# Altium footprint library EIA.QFP.PcbLib: 10 footprints
Each footprint in its own frame and in the unit in brackets; x right, y up, seen from the top. Pads: shape width x height; smd on the part's side, far side on the other; paste and mask are expansions set on the pad; w line width, h text height; cw(c..) or ccw(c..) is an arc to the next point about the centre after c.
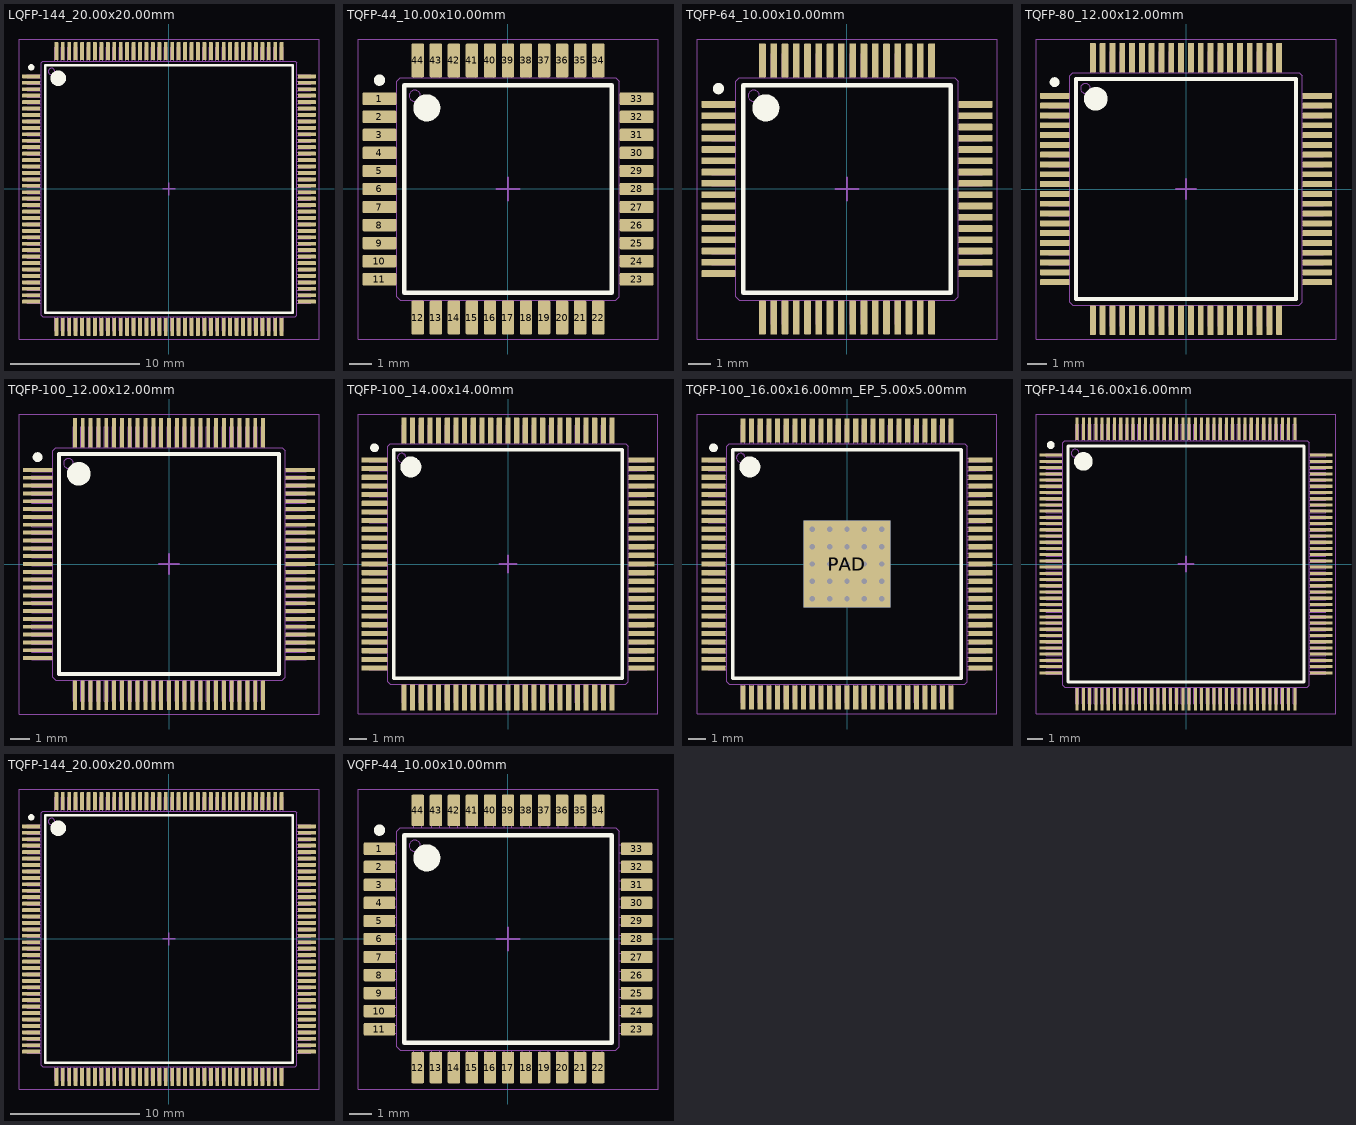
[diagram p0: the footprints below, top view; thin cyan lines are the x and y axes]

## LQFP-144_20.00x20.00mm [mm] "LQFP, 144-Leads, Body 20.00x20.00mm, Pitch 0.50mm, IPC Medium Density"
height 1.6
pads (144):
  rrect20% 1.4x0.3 smd: 1(-10.7,8.75) 2(-10.7,8.25) 3(-10.7,7.75) 4(-10.7,7.25) 5(-10.7,6.75) 6(-10.7,6.25) 7(-10.7,5.75) 8(-10.7,5.25) 9(-10.7,4.75) 10(-10.7,4.25) 11(-10.7,3.75) 12(-10.7,3.25) 13(-10.7,2.75) 14(-10.7,2.25) 15(-10.7,1.75) 16(-10.7,1.25) 17(-10.7,0.75) 18(-10.7,0.25) 19(-10.7,-0.25) 20(-10.7,-0.75) 21(-10.7,-1.25) 22(-10.7,-1.75) 23(-10.7,-2.25) 24(-10.7,-2.75) 25(-10.7,-3.25) 26(-10.7,-3.75) 27(-10.7,-4.25) 28(-10.7,-4.75) 29(-10.7,-5.25) 30(-10.7,-5.75) 31(-10.7,-6.25) 32(-10.7,-6.75) 33(-10.7,-7.25) 34(-10.7,-7.75) 35(-10.7,-8.25) 36(-10.7,-8.75) 73(10.7,-8.75) 74(10.7,-8.25) 75(10.7,-7.75) 76(10.7,-7.25) 77(10.7,-6.75) 78(10.7,-6.25) 79(10.7,-5.75) 80(10.7,-5.25) 81(10.7,-4.75) 82(10.7,-4.25) 83(10.7,-3.75) 84(10.7,-3.25) 85(10.7,-2.75) 86(10.7,-2.25) 87(10.7,-1.75) 88(10.7,-1.25) 89(10.7,-0.75) 90(10.7,-0.25) 91(10.7,0.25) 92(10.7,0.75) 93(10.7,1.25) 94(10.7,1.75) 95(10.7,2.25) 96(10.7,2.75) 97(10.7,3.25) 98(10.7,3.75) 99(10.7,4.25) 100(10.7,4.75) 101(10.7,5.25) 102(10.7,5.75) 103(10.7,6.25) 104(10.7,6.75) 105(10.7,7.25) 106(10.7,7.75) 107(10.7,8.25) 108(10.7,8.75)
  rrect20% 0.3x1.4 smd: 37(-8.75,-10.7) 38(-8.25,-10.7) 39(-7.75,-10.7) 40(-7.25,-10.7) 41(-6.75,-10.7) 42(-6.25,-10.7) 43(-5.75,-10.7) 44(-5.25,-10.7) 45(-4.75,-10.7) 46(-4.25,-10.7) 47(-3.75,-10.7) 48(-3.25,-10.7) 49(-2.75,-10.7) 50(-2.25,-10.7) 51(-1.75,-10.7) 52(-1.25,-10.7) 53(-0.75,-10.7) 54(-0.25,-10.7) 55(0.25,-10.7) 56(0.75,-10.7) 57(1.25,-10.7) 58(1.75,-10.7) 59(2.25,-10.7) 60(2.75,-10.7) 61(3.25,-10.7) 62(3.75,-10.7) 63(4.25,-10.7) 64(4.75,-10.7) 65(5.25,-10.7) 66(5.75,-10.7) 67(6.25,-10.7) 68(6.75,-10.7) 69(7.25,-10.7) 70(7.75,-10.7) 71(8.25,-10.7) 72(8.75,-10.7) 109(8.75,10.7) 110(8.25,10.7) 111(7.75,10.7) 112(7.25,10.7) 113(6.75,10.7) 114(6.25,10.7) 115(5.75,10.7) 116(5.25,10.7) 117(4.75,10.7) 118(4.25,10.7) 119(3.75,10.7) 120(3.25,10.7) 121(2.75,10.7) 122(2.25,10.7) 123(1.75,10.7) 124(1.25,10.7) 125(0.75,10.7) 126(0.25,10.7) 127(-0.25,10.7) 128(-0.75,10.7) 129(-1.25,10.7) 130(-1.75,10.7) 131(-2.25,10.7) 132(-2.75,10.7) 133(-3.25,10.7) 134(-3.75,10.7) 135(-4.25,10.7) 136(-4.75,10.7) 137(-5.25,10.7) 138(-5.75,10.7) 139(-6.25,10.7) 140(-6.75,10.7) 141(-7.25,10.7) 142(-7.75,10.7) 143(-8.25,10.7) 144(-8.75,10.7)
Top Overlay:
  circle w0.25: c-10.7,9.45 r0.125
  circle w0.6: c-8.6,8.6 r0.3
  lines w0.2: -9.6,-9.6 -9.6,9.6 9.6,9.6 9.6,-9.6 -9.6,-9.6
Mechanical 1:
  drawing of 441 lines, arcs and shapes, not listed
Mechanical 15:
  lines w0.05: -11.65,-11.65 -11.65,11.65 11.65,11.65 11.65,-11.65 -11.65,-11.65
  lines w0.1: -0.5,0 0.5,0 ; 0,-0.5 0,0.5
3D body "LQFP-144_20x20mm_P0.5mm.step": height 1.5, standoff 0, extent -11,-11 11,11

## TQFP-44_10.00x10.00mm [mm] "TQFP, 44-Leads, Body 10.00x10.00mm, Pitch 0.80mm, IPC Medium Density"
height 1.2
pads (44):
  rrect20% 1.5x0.55 smd: 1(-5.7,4) 2(-5.7,3.2) 3(-5.7,2.4) 4(-5.7,1.6) 5(-5.7,0.8) 6(-5.7,0) 7(-5.7,-0.8) 8(-5.7,-1.6) 9(-5.7,-2.4) 10(-5.7,-3.2) 11(-5.7,-4) 23(5.7,-4) 24(5.7,-3.2) 25(5.7,-2.4) 26(5.7,-1.6) 27(5.7,-0.8) 28(5.7,0) 29(5.7,0.8) 30(5.7,1.6) 31(5.7,2.4) 32(5.7,3.2) 33(5.7,4)
  rrect20% 0.55x1.5 smd: 12(-4,-5.7) 13(-3.2,-5.7) 14(-2.4,-5.7) 15(-1.6,-5.7) 16(-0.8,-5.7) 17(0,-5.7) 18(0.8,-5.7) 19(1.6,-5.7) 20(2.4,-5.7) 21(3.2,-5.7) 22(4,-5.7) 34(4,5.7) 35(3.2,5.7) 36(2.4,5.7) 37(1.6,5.7) 38(0.8,5.7) 39(0,5.7) 40(-0.8,5.7) 41(-1.6,5.7) 42(-2.4,5.7) 43(-3.2,5.7) 44(-4,5.7)
Top Overlay:
  circle w0.25: c-5.7,4.825 r0.125
  circle w0.6: c-3.6,3.6 r0.3
  lines w0.2: -4.6,-4.6 -4.6,4.6 4.6,4.6 4.6,-4.6 -4.6,-4.6
Mechanical 1:
  circle w0.05: c-4.129,4.129 r0.25
  lines w0.05: -4.925,-4.175 -6,-4.175 -6,-3.825 -4.925,-3.825 ; -4.925,-3.375 -6,-3.375 -6,-3.025 -4.925,-3.025 ; -4.925,-2.575 -6,-2.575 -6,-2.225 -4.925,-2.225 ; -4.925,-1.775 -6,-1.775 -6,-1.425 -4.925,-1.425 ; -4.925,-0.975 -6,-0.975 -6,-0.625 -4.925,-0.625 ; -4.925,-0.175 -6,-0.175 -6,0.175 -4.925,0.175 ; -4.925,0.625 -6,0.625 -6,0.975 -4.925,0.975 ; -4.925,1.425 -6,1.425 -6,1.775 -4.925,1.775 ; -4.925,2.225 -6,2.225 -6,2.575 -4.925,2.575 ; -4.925,3.025 -6,3.025 -6,3.375 -4.925,3.375 ; -4.925,3.825 -6,3.825 -6,4.175 -4.925,4.175 ; -4.175,-4.925 -4.175,-6 -3.825,-6 -3.825,-4.925 ; -4.175,4.925 -4.175,6 -3.825,6 -3.825,4.925 ; -3.375,-4.925 -3.375,-6 -3.025,-6 -3.025,-4.925 ; -3.375,4.925 -3.375,6 -3.025,6 -3.025,4.925 ; -2.575,-4.925 -2.575,-6 -2.225,-6 -2.225,-4.925 ; -2.575,4.925 -2.575,6 -2.225,6 -2.225,4.925 ; -1.775,-4.925 -1.775,-6 -1.425,-6 -1.425,-4.925 ; -1.775,4.925 -1.775,6 -1.425,6 -1.425,4.925 ; -0.975,-4.925 -0.975,-6 -0.625,-6 -0.625,-4.925 ; -0.975,4.925 -0.975,6 -0.625,6 -0.625,4.925 ; -0.175,-4.925 -0.175,-6 0.175,-6 0.175,-4.925 ; -0.175,4.925 -0.175,6 0.175,6 0.175,4.925 ; 0.625,-4.925 0.625,-6 0.975,-6 0.975,-4.925 ; 0.625,4.925 0.625,6 0.975,6 0.975,4.925 ; 1.425,-4.925 1.425,-6 1.775,-6 1.775,-4.925 ; 1.425,4.925 1.425,6 1.775,6 1.775,4.925 ; 2.225,-4.925 2.225,-6 2.575,-6 2.575,-4.925 ; 2.225,4.925 2.225,6 2.575,6 2.575,4.925 ; 3.025,-4.925 3.025,-6 3.375,-6 3.375,-4.925 ; 3.025,4.925 3.025,6 3.375,6 3.375,4.925 ; 3.825,-4.925 3.825,-6 4.175,-6 4.175,-4.925 ; 3.825,4.925 3.825,6 4.175,6 4.175,4.925 ; 4.925,-4.175 6,-4.175 6,-3.825 4.925,-3.825 ; 4.925,-3.375 6,-3.375 6,-3.025 4.925,-3.025 ; 4.925,-2.575 6,-2.575 6,-2.225 4.925,-2.225 ; 4.925,-1.775 6,-1.775 6,-1.425 4.925,-1.425 ; 4.925,-0.975 6,-0.975 6,-0.625 4.925,-0.625 ; 4.925,-0.175 6,-0.175 6,0.175 4.925,0.175 ; 4.925,0.625 6,0.625 6,0.975 4.925,0.975 ; 4.925,1.425 6,1.425 6,1.775 4.925,1.775 ; 4.925,2.225 6,2.225 6,2.575 4.925,2.575 ; 4.925,3.025 6,3.025 6,3.375 4.925,3.375 ; 4.925,3.825 6,3.825 6,4.175 4.925,4.175 ; -4.925,-4.788 -4.788,-4.925 4.788,-4.925 4.925,-4.788 4.925,4.788 4.788,4.925 -4.788,4.925 -4.925,4.788 -4.925,-4.788
Mechanical 15:
  lines w0.05: -6.65,-6.65 -6.65,6.65 6.65,6.65 6.65,-6.65 -6.65,-6.65
  lines w0.1: -0.5,0 0.5,0 ; 0,-0.5 0,0.5
3D body "TQFP-44_10x10mm_P0.8mm.step": height 1.1, standoff 0, extent -6,-6 6,6

## TQFP-64_10.00x10.00mm [mm] "TQFP, 64-Leads, Body 10.00x10.00mm, Pitch 0.50mm, IPC Medium Density"
height 1.2
pads (64):
  rrect20% 1.5x0.3 smd: 1(-5.7,3.75) 2(-5.7,3.25) 3(-5.7,2.75) 4(-5.7,2.25) 5(-5.7,1.75) 6(-5.7,1.25) 7(-5.7,0.75) 8(-5.7,0.25) 9(-5.7,-0.25) 10(-5.7,-0.75) 11(-5.7,-1.25) 12(-5.7,-1.75) 13(-5.7,-2.25) 14(-5.7,-2.75) 15(-5.7,-3.25) 16(-5.7,-3.75) 33(5.7,-3.75) 34(5.7,-3.25) 35(5.7,-2.75) 36(5.7,-2.25) 37(5.7,-1.75) 38(5.7,-1.25) 39(5.7,-0.75) 40(5.7,-0.25) 41(5.7,0.25) 42(5.7,0.75) 43(5.7,1.25) 44(5.7,1.75) 45(5.7,2.25) 46(5.7,2.75) 47(5.7,3.25) 48(5.7,3.75)
  rrect20% 0.3x1.5 smd: 17(-3.75,-5.7) 18(-3.25,-5.7) 19(-2.75,-5.7) 20(-2.25,-5.7) 21(-1.75,-5.7) 22(-1.25,-5.7) 23(-0.75,-5.7) 24(-0.25,-5.7) 25(0.25,-5.7) 26(0.75,-5.7) 27(1.25,-5.7) 28(1.75,-5.7) 29(2.25,-5.7) 30(2.75,-5.7) 31(3.25,-5.7) 32(3.75,-5.7) 49(3.75,5.7) 50(3.25,5.7) 51(2.75,5.7) 52(2.25,5.7) 53(1.75,5.7) 54(1.25,5.7) 55(0.75,5.7) 56(0.25,5.7) 57(-0.25,5.7) 58(-0.75,5.7) 59(-1.25,5.7) 60(-1.75,5.7) 61(-2.25,5.7) 62(-2.75,5.7) 63(-3.25,5.7) 64(-3.75,5.7)
Top Overlay:
  circle w0.25: c-5.7,4.45 r0.125
  circle w0.6: c-3.6,3.6 r0.3
  lines w0.2: -4.6,-4.6 -4.6,4.6 4.6,4.6 4.6,-4.6 -4.6,-4.6
Mechanical 1:
  drawing of 201 lines, arcs and shapes, not listed
Mechanical 15:
  lines w0.05: -6.65,-6.65 -6.65,6.65 6.65,6.65 6.65,-6.65 -6.65,-6.65
  lines w0.1: -0.5,0 0.5,0 ; 0,-0.5 0,0.5
3D body "TQFP-64_10x10mm_P0.5mm.step": height 1.1, standoff 0, extent -6,-6 6,6

## TQFP-80_12.00x12.00mm [mm] "TQFP, 80-Leads, Body 12.00x12.00mm, Pitch 0.50mm, IPC Medium Density"
height 1.2
pads (80):
  rrect20% 1.5x0.3 smd: 1(-6.7,4.75) 2(-6.7,4.25) 3(-6.7,3.75) 4(-6.7,3.25) 5(-6.7,2.75) 6(-6.7,2.25) 7(-6.7,1.75) 8(-6.7,1.25) 9(-6.7,0.75) 10(-6.7,0.25) 11(-6.7,-0.25) 12(-6.7,-0.75) 13(-6.7,-1.25) 14(-6.7,-1.75) 15(-6.7,-2.25) 16(-6.7,-2.75) 17(-6.7,-3.25) 18(-6.7,-3.75) 19(-6.7,-4.25) 20(-6.7,-4.75) 41(6.7,-4.75) 42(6.7,-4.25) 43(6.7,-3.75) 44(6.7,-3.25) 45(6.7,-2.75) 46(6.7,-2.25) 47(6.7,-1.75) 48(6.7,-1.25) 49(6.7,-0.75) 50(6.7,-0.25) 51(6.7,0.25) 52(6.7,0.75) 53(6.7,1.25) 54(6.7,1.75) 55(6.7,2.25) 56(6.7,2.75) 57(6.7,3.25) 58(6.7,3.75) 59(6.7,4.25) 60(6.7,4.75)
  rrect20% 0.3x1.5 smd: 21(-4.75,-6.7) 22(-4.25,-6.7) 23(-3.75,-6.7) 24(-3.25,-6.7) 25(-2.75,-6.7) 26(-2.25,-6.7) 27(-1.75,-6.7) 28(-1.25,-6.7) 29(-0.75,-6.7) 30(-0.25,-6.7) 31(0.25,-6.7) 32(0.75,-6.7) 33(1.25,-6.7) 34(1.75,-6.7) 35(2.25,-6.7) 36(2.75,-6.7) 37(3.25,-6.7) 38(3.75,-6.7) 39(4.25,-6.7) 40(4.75,-6.7) 61(4.75,6.7) 62(4.25,6.7) 63(3.75,6.7) 64(3.25,6.7) 65(2.75,6.7) 66(2.25,6.7) 67(1.75,6.7) 68(1.25,6.7) 69(0.75,6.7) 70(0.25,6.7) 71(-0.25,6.7) 72(-0.75,6.7) 73(-1.25,6.7) 74(-1.75,6.7) 75(-2.25,6.7) 76(-2.75,6.7) 77(-3.25,6.7) 78(-3.75,6.7) 79(-4.25,6.7) 80(-4.75,6.7)
Top Overlay:
  circle w0.25: c-6.7,5.45 r0.125
  circle w0.6: c-4.6,4.6 r0.3
  lines w0.2: -5.6,-5.6 -5.6,5.6 5.6,5.6 5.6,-5.6 -5.6,-5.6
Mechanical 1:
  drawing of 249 lines, arcs and shapes, not listed
Mechanical 15:
  lines w0.05: -7.65,-7.65 -7.65,7.65 7.65,7.65 7.65,-7.65 -7.65,-7.65
  lines w0.1: -0.5,0 0.5,0 ; 0,-0.5 0,0.5
3D body "TQFP-80_12x12mm_P0.5mm.step": height 1.1, standoff 0, extent -7,-7 7,7

## TQFP-100_12.00x12.00mm [mm] "TQFP, 100-Leads, Body 12.00x12.00mm, Pitch 0.40mm, IPC Medium Density"
height 1.2
pads (100):
  rrect20% 1.5x0.2 smd: 1(-6.7,4.8) 2(-6.7,4.4) 3(-6.7,4) 4(-6.7,3.6) 5(-6.7,3.2) 6(-6.7,2.8) 7(-6.7,2.4) 8(-6.7,2) 9(-6.7,1.6) 10(-6.7,1.2) 11(-6.7,0.8) 12(-6.7,0.4) 13(-6.7,0) 14(-6.7,-0.4) 15(-6.7,-0.8) 16(-6.7,-1.2) 17(-6.7,-1.6) 18(-6.7,-2) 19(-6.7,-2.4) 20(-6.7,-2.8) 21(-6.7,-3.2) 22(-6.7,-3.6) 23(-6.7,-4) 24(-6.7,-4.4) 25(-6.7,-4.8) 51(6.7,-4.8) 52(6.7,-4.4) 53(6.7,-4) 54(6.7,-3.6) 55(6.7,-3.2) 56(6.7,-2.8) 57(6.7,-2.4) 58(6.7,-2) 59(6.7,-1.6) 60(6.7,-1.2) 61(6.7,-0.8) 62(6.7,-0.4) 63(6.7,0) 64(6.7,0.4) 65(6.7,0.8) 66(6.7,1.2) 67(6.7,1.6) 68(6.7,2) 69(6.7,2.4) 70(6.7,2.8) 71(6.7,3.2) 72(6.7,3.6) 73(6.7,4) 74(6.7,4.4) 75(6.7,4.8)
  rrect20% 0.2x1.5 smd: 26(-4.8,-6.7) 27(-4.4,-6.7) 28(-4,-6.7) 29(-3.6,-6.7) 30(-3.2,-6.7) 31(-2.8,-6.7) 32(-2.4,-6.7) 33(-2,-6.7) 34(-1.6,-6.7) 35(-1.2,-6.7) 36(-0.8,-6.7) 37(-0.4,-6.7) 38(0,-6.7) 39(0.4,-6.7) 40(0.8,-6.7) 41(1.2,-6.7) 42(1.6,-6.7) 43(2,-6.7) 44(2.4,-6.7) 45(2.8,-6.7) 46(3.2,-6.7) 47(3.6,-6.7) 48(4,-6.7) 49(4.4,-6.7) 50(4.8,-6.7) 76(4.8,6.7) 77(4.4,6.7) 78(4,6.7) 79(3.6,6.7) 80(3.2,6.7) 81(2.8,6.7) 82(2.4,6.7) 83(2,6.7) 84(1.6,6.7) 85(1.2,6.7) 86(0.8,6.7) 87(0.4,6.7) 88(0,6.7) 89(-0.4,6.7) 90(-0.8,6.7) 91(-1.2,6.7) 92(-1.6,6.7) 93(-2,6.7) 94(-2.4,6.7) 95(-2.8,6.7) 96(-3.2,6.7) 97(-3.6,6.7) 98(-4,6.7) 99(-4.4,6.7) 100(-4.8,6.7)
Top Overlay:
  circle w0.25: c-6.7,5.45 r0.125
  circle w0.6: c-4.6,4.6 r0.3
  lines w0.2: -5.6,-5.6 -5.6,5.6 5.6,5.6 5.6,-5.6 -5.6,-5.6
Mechanical 1:
  drawing of 309 lines, arcs and shapes, not listed
Mechanical 15:
  lines w0.05: -7.65,-7.65 -7.65,7.65 7.65,7.65 7.65,-7.65 -7.65,-7.65
  lines w0.1: -0.5,0 0.5,0 ; 0,-0.5 0,0.5
3D body "TQFP-100_12x12mm_P0.4mm.step": height 1.1, standoff 0, extent -7,-7 7,7

## TQFP-100_14.00x14.00mm [mm] "TQFP, 100-Leads, Body 14.00x14.00mm, Pitch 0.50mm, IPC Medium Density"
height 1.2
pads (100):
  rrect20% 1.5x0.3 smd: 1(-7.7,6) 2(-7.7,5.5) 3(-7.7,5) 4(-7.7,4.5) 5(-7.7,4) 6(-7.7,3.5) 7(-7.7,3) 8(-7.7,2.5) 9(-7.7,2) 10(-7.7,1.5) 11(-7.7,1) 12(-7.7,0.5) 13(-7.7,0) 14(-7.7,-0.5) 15(-7.7,-1) 16(-7.7,-1.5) 17(-7.7,-2) 18(-7.7,-2.5) 19(-7.7,-3) 20(-7.7,-3.5) 21(-7.7,-4) 22(-7.7,-4.5) 23(-7.7,-5) 24(-7.7,-5.5) 25(-7.7,-6) 51(7.7,-6) 52(7.7,-5.5) 53(7.7,-5) 54(7.7,-4.5) 55(7.7,-4) 56(7.7,-3.5) 57(7.7,-3) 58(7.7,-2.5) 59(7.7,-2) 60(7.7,-1.5) 61(7.7,-1) 62(7.7,-0.5) 63(7.7,0) 64(7.7,0.5) 65(7.7,1) 66(7.7,1.5) 67(7.7,2) 68(7.7,2.5) 69(7.7,3) 70(7.7,3.5) 71(7.7,4) 72(7.7,4.5) 73(7.7,5) 74(7.7,5.5) 75(7.7,6)
  rrect20% 0.3x1.5 smd: 26(-6,-7.7) 27(-5.5,-7.7) 28(-5,-7.7) 29(-4.5,-7.7) 30(-4,-7.7) 31(-3.5,-7.7) 32(-3,-7.7) 33(-2.5,-7.7) 34(-2,-7.7) 35(-1.5,-7.7) 36(-1,-7.7) 37(-0.5,-7.7) 38(0,-7.7) 39(0.5,-7.7) 40(1,-7.7) 41(1.5,-7.7) 42(2,-7.7) 43(2.5,-7.7) 44(3,-7.7) 45(3.5,-7.7) 46(4,-7.7) 47(4.5,-7.7) 48(5,-7.7) 49(5.5,-7.7) 50(6,-7.7) 76(6,7.7) 77(5.5,7.7) 78(5,7.7) 79(4.5,7.7) 80(4,7.7) 81(3.5,7.7) 82(3,7.7) 83(2.5,7.7) 84(2,7.7) 85(1.5,7.7) 86(1,7.7) 87(0.5,7.7) 88(0,7.7) 89(-0.5,7.7) 90(-1,7.7) 91(-1.5,7.7) 92(-2,7.7) 93(-2.5,7.7) 94(-3,7.7) 95(-3.5,7.7) 96(-4,7.7) 97(-4.5,7.7) 98(-5,7.7) 99(-5.5,7.7) 100(-6,7.7)
Top Overlay:
  circle w0.25: c-7.7,6.7 r0.125
  circle w0.6: c-5.6,5.6 r0.3
  lines w0.2: -6.6,-6.6 -6.6,6.6 6.6,6.6 6.6,-6.6 -6.6,-6.6
Mechanical 1:
  drawing of 309 lines, arcs and shapes, not listed
Mechanical 15:
  lines w0.05: -8.65,-8.65 -8.65,8.65 8.65,8.65 8.65,-8.65 -8.65,-8.65
  lines w0.1: -0.5,0 0.5,0 ; 0,-0.5 0,0.5
3D body "TQFP-100_14x14mm_P0.5mm.step": height 1.1, standoff 0, extent -8,-8 8,8

## TQFP-100_16.00x16.00mm_EP_5.00x5.00mm [mm] "TQFP, 100-Leads, Body 14.00x14.00mm, Pitch 0.50mm, Thermal Pad 5.00x5.00mm, IPC Medium Density"
height 1.2
pads (102):
  rrect20% 1.4x0.3 smd: 1(-7.7,6) 2(-7.7,5.5) 3(-7.7,5) 4(-7.7,4.5) 5(-7.7,4) 6(-7.7,3.5) 7(-7.7,3) 8(-7.7,2.5) 9(-7.7,2) 10(-7.7,1.5) 11(-7.7,1) 12(-7.7,0.5) 13(-7.7,0) 14(-7.7,-0.5) 15(-7.7,-1) 16(-7.7,-1.5) 17(-7.7,-2) 18(-7.7,-2.5) 19(-7.7,-3) 20(-7.7,-3.5) 21(-7.7,-4) 22(-7.7,-4.5) 23(-7.7,-5) 24(-7.7,-5.5) 25(-7.7,-6) 51(7.7,-6) 52(7.7,-5.5) 53(7.7,-5) 54(7.7,-4.5) 55(7.7,-4) 56(7.7,-3.5) 57(7.7,-3) 58(7.7,-2.5) 59(7.7,-2) 60(7.7,-1.5) 61(7.7,-1) 62(7.7,-0.5) 63(7.7,0) 64(7.7,0.5) 65(7.7,1) 66(7.7,1.5) 67(7.7,2) 68(7.7,2.5) 69(7.7,3) 70(7.7,3.5) 71(7.7,4) 72(7.7,4.5) 73(7.7,5) 74(7.7,5.5) 75(7.7,6)
  rrect20% 0.3x1.4 smd: 26(-6,-7.7) 27(-5.5,-7.7) 28(-5,-7.7) 29(-4.5,-7.7) 30(-4,-7.7) 31(-3.5,-7.7) 32(-3,-7.7) 33(-2.5,-7.7) 34(-2,-7.7) 35(-1.5,-7.7) 36(-1,-7.7) 37(-0.5,-7.7) 38(0,-7.7) 39(0.5,-7.7) 40(1,-7.7) 41(1.5,-7.7) 42(2,-7.7) 43(2.5,-7.7) 44(3,-7.7) 45(3.5,-7.7) 46(4,-7.7) 47(4.5,-7.7) 48(5,-7.7) 49(5.5,-7.7) 50(6,-7.7) 76(6,7.7) 77(5.5,7.7) 78(5,7.7) 79(4.5,7.7) 80(4,7.7) 81(3.5,7.7) 82(3,7.7) 83(2.5,7.7) 84(2,7.7) 85(1.5,7.7) 86(1,7.7) 87(0.5,7.7) 88(0,7.7) 89(-0.5,7.7) 90(-1,7.7) 91(-1.5,7.7) 92(-2,7.7) 93(-2.5,7.7) 94(-3,7.7) 95(-3.5,7.7) 96(-4,7.7) 97(-4.5,7.7) 98(-5,7.7) 99(-5.5,7.7) 100(-6,7.7)
  rect 5x5 smd: PAD(0,0)
  rect 5x5 smd far side: PAD(0,0)
via -2,0 diameter 0.6 hole 0.3
via -1,0 diameter 0.6 hole 0.3
via 0,0 diameter 0.6 hole 0.3
via 1,0 diameter 0.6 hole 0.3
via 2,0 diameter 0.6 hole 0.3
via -2,-1 diameter 0.6 hole 0.3
via -1,-1 diameter 0.6 hole 0.3
via 0,-1 diameter 0.6 hole 0.3
via 1,-1 diameter 0.6 hole 0.3
via 2,-1 diameter 0.6 hole 0.3
via -2,1 diameter 0.6 hole 0.3
via -1,1 diameter 0.6 hole 0.3
via 0,1 diameter 0.6 hole 0.3
via 1,1 diameter 0.6 hole 0.3
via 2,1 diameter 0.6 hole 0.3
via -2,2 diameter 0.6 hole 0.3
via -1,2 diameter 0.6 hole 0.3
via 0,2 diameter 0.6 hole 0.3
via 1,2 diameter 0.6 hole 0.3
via 2,2 diameter 0.6 hole 0.3
via -2,-2 diameter 0.6 hole 0.3
via -1,-2 diameter 0.6 hole 0.3
via 0,-2 diameter 0.6 hole 0.3
via 2,-2 diameter 0.6 hole 0.3
via 1,-2 diameter 0.6 hole 0.3
Top Overlay:
  circle w0.6: c-5.6,5.6 r0.3
  circle w0.25: c-7.7,6.7 r0.125
  lines w0.2: -6.6,-6.6 6.6,-6.6 6.6,6.6 -6.6,6.6 -6.6,-6.6
Mechanical 1:
  drawing of 309 lines, arcs and shapes, not listed
Mechanical 15:
  lines w0.05: -8.65,-8.65 8.65,-8.65 8.65,8.65 -8.65,8.65 -8.65,-8.65
  lines w0.1: -0.5,0 0.5,0 ; 0,-0.5 0,0.5
3D body "TQFP-100_14x14mm_P0.5mm_EP5x5mm.step": height 1.6, standoff 0, extent -8.2,-8.2 8.2,8.2

## TQFP-144_16.00x16.00mm [mm] "TQFP, 144-Leads, Body 16.00x16.00mm, Pitch 0.40mm, IPC Medium Density"
height 1.2
pads (144):
  rrect20% 1.45x0.2 smd: 1(-8.7,7) 2(-8.7,6.6) 3(-8.7,6.2) 4(-8.7,5.8) 5(-8.7,5.4) 6(-8.7,5) 7(-8.7,4.6) 8(-8.7,4.2) 9(-8.7,3.8) 10(-8.7,3.4) 11(-8.7,3) 12(-8.7,2.6) 13(-8.7,2.2) 14(-8.7,1.8) 15(-8.7,1.4) 16(-8.7,1) 17(-8.7,0.6) 18(-8.7,0.2) 19(-8.7,-0.2) 20(-8.7,-0.6) 21(-8.7,-1) 22(-8.7,-1.4) 23(-8.7,-1.8) 24(-8.7,-2.2) 25(-8.7,-2.6) 26(-8.7,-3) 27(-8.7,-3.4) 28(-8.7,-3.8) 29(-8.7,-4.2) 30(-8.7,-4.6) 31(-8.7,-5) 32(-8.7,-5.4) 33(-8.7,-5.8) 34(-8.7,-6.2) 35(-8.7,-6.6) 36(-8.7,-7) 73(8.7,-7) 74(8.7,-6.6) 75(8.7,-6.2) 76(8.7,-5.8) 77(8.7,-5.4) 78(8.7,-5) 79(8.7,-4.6) 80(8.7,-4.2) 81(8.7,-3.8) 82(8.7,-3.4) 83(8.7,-3) 84(8.7,-2.6) 85(8.7,-2.2) 86(8.7,-1.8) 87(8.7,-1.4) 88(8.7,-1) 89(8.7,-0.6) 90(8.7,-0.2) 91(8.7,0.2) 92(8.7,0.6) 93(8.7,1) 94(8.7,1.4) 95(8.7,1.8) 96(8.7,2.2) 97(8.7,2.6) 98(8.7,3) 99(8.7,3.4) 100(8.7,3.8) 101(8.7,4.2) 102(8.7,4.6) 103(8.7,5) 104(8.7,5.4) 105(8.7,5.8) 106(8.7,6.2) 107(8.7,6.6) 108(8.7,7)
  rrect20% 0.2x1.45 smd: 37(-7,-8.7) 38(-6.6,-8.7) 39(-6.2,-8.7) 40(-5.8,-8.7) 41(-5.4,-8.7) 42(-5,-8.7) 43(-4.6,-8.7) 44(-4.2,-8.7) 45(-3.8,-8.7) 46(-3.4,-8.7) 47(-3,-8.7) 48(-2.6,-8.7) 49(-2.2,-8.7) 50(-1.8,-8.7) 51(-1.4,-8.7) 52(-1,-8.7) 53(-0.6,-8.7) 54(-0.2,-8.7) 55(0.2,-8.7) 56(0.6,-8.7) 57(1,-8.7) 58(1.4,-8.7) 59(1.8,-8.7) 60(2.2,-8.7) 61(2.6,-8.7) 62(3,-8.7) 63(3.4,-8.7) 64(3.8,-8.7) 65(4.2,-8.7) 66(4.6,-8.7) 67(5,-8.7) 68(5.4,-8.7) 69(5.8,-8.7) 70(6.2,-8.7) 71(6.6,-8.7) 72(7,-8.7) 109(7,8.7) 110(6.6,8.7) 111(6.2,8.7) 112(5.8,8.7) 113(5.4,8.7) 114(5,8.7) 115(4.6,8.7) 116(4.2,8.7) 117(3.8,8.7) 118(3.4,8.7) 119(3,8.7) 120(2.6,8.7) 121(2.2,8.7) 122(1.8,8.7) 123(1.4,8.7) 124(1,8.7) 125(0.6,8.7) 126(0.2,8.7) 127(-0.2,8.7) 128(-0.6,8.7) 129(-1,8.7) 130(-1.4,8.7) 131(-1.8,8.7) 132(-2.2,8.7) 133(-2.6,8.7) 134(-3,8.7) 135(-3.4,8.7) 136(-3.8,8.7) 137(-4.2,8.7) 138(-4.6,8.7) 139(-5,8.7) 140(-5.4,8.7) 141(-5.8,8.7) 142(-6.2,8.7) 143(-6.6,8.7) 144(-7,8.7)
Top Overlay:
  circle w0.25: c-8.7,7.65 r0.125
  circle w0.6: c-6.6,6.6 r0.3
  lines w0.2: -7.6,-7.6 -7.6,7.6 7.6,7.6 7.6,-7.6 -7.6,-7.6
Mechanical 1:
  drawing of 441 lines, arcs and shapes, not listed
Mechanical 15:
  lines w0.05: -9.65,-9.65 -9.65,9.65 9.65,9.65 9.65,-9.65 -9.65,-9.65
  lines w0.1: -0.5,0 0.5,0 ; 0,-0.5 0,0.5
3D body "TQFP-144_16x16mm_P0.4mm.step": height 1.1, standoff 0, extent -9,-9 9,9

## TQFP-144_20.00x20.00mm [mm] "TQFP, 144-Leads, Body 20.00x20.00mm, Pitch 0.50mm, IPC Medium Density"
height 1.2
pads (144):
  rrect20% 1.4x0.3 smd: 1(-10.7,8.75) 2(-10.7,8.25) 3(-10.7,7.75) 4(-10.7,7.25) 5(-10.7,6.75) 6(-10.7,6.25) 7(-10.7,5.75) 8(-10.7,5.25) 9(-10.7,4.75) 10(-10.7,4.25) 11(-10.7,3.75) 12(-10.7,3.25) 13(-10.7,2.75) 14(-10.7,2.25) 15(-10.7,1.75) 16(-10.7,1.25) 17(-10.7,0.75) 18(-10.7,0.25) 19(-10.7,-0.25) 20(-10.7,-0.75) 21(-10.7,-1.25) 22(-10.7,-1.75) 23(-10.7,-2.25) 24(-10.7,-2.75) 25(-10.7,-3.25) 26(-10.7,-3.75) 27(-10.7,-4.25) 28(-10.7,-4.75) 29(-10.7,-5.25) 30(-10.7,-5.75) 31(-10.7,-6.25) 32(-10.7,-6.75) 33(-10.7,-7.25) 34(-10.7,-7.75) 35(-10.7,-8.25) 36(-10.7,-8.75) 73(10.7,-8.75) 74(10.7,-8.25) 75(10.7,-7.75) 76(10.7,-7.25) 77(10.7,-6.75) 78(10.7,-6.25) 79(10.7,-5.75) 80(10.7,-5.25) 81(10.7,-4.75) 82(10.7,-4.25) 83(10.7,-3.75) 84(10.7,-3.25) 85(10.7,-2.75) 86(10.7,-2.25) 87(10.7,-1.75) 88(10.7,-1.25) 89(10.7,-0.75) 90(10.7,-0.25) 91(10.7,0.25) 92(10.7,0.75) 93(10.7,1.25) 94(10.7,1.75) 95(10.7,2.25) 96(10.7,2.75) 97(10.7,3.25) 98(10.7,3.75) 99(10.7,4.25) 100(10.7,4.75) 101(10.7,5.25) 102(10.7,5.75) 103(10.7,6.25) 104(10.7,6.75) 105(10.7,7.25) 106(10.7,7.75) 107(10.7,8.25) 108(10.7,8.75)
  rrect20% 0.3x1.4 smd: 37(-8.75,-10.7) 38(-8.25,-10.7) 39(-7.75,-10.7) 40(-7.25,-10.7) 41(-6.75,-10.7) 42(-6.25,-10.7) 43(-5.75,-10.7) 44(-5.25,-10.7) 45(-4.75,-10.7) 46(-4.25,-10.7) 47(-3.75,-10.7) 48(-3.25,-10.7) 49(-2.75,-10.7) 50(-2.25,-10.7) 51(-1.75,-10.7) 52(-1.25,-10.7) 53(-0.75,-10.7) 54(-0.25,-10.7) 55(0.25,-10.7) 56(0.75,-10.7) 57(1.25,-10.7) 58(1.75,-10.7) 59(2.25,-10.7) 60(2.75,-10.7) 61(3.25,-10.7) 62(3.75,-10.7) 63(4.25,-10.7) 64(4.75,-10.7) 65(5.25,-10.7) 66(5.75,-10.7) 67(6.25,-10.7) 68(6.75,-10.7) 69(7.25,-10.7) 70(7.75,-10.7) 71(8.25,-10.7) 72(8.75,-10.7) 109(8.75,10.7) 110(8.25,10.7) 111(7.75,10.7) 112(7.25,10.7) 113(6.75,10.7) 114(6.25,10.7) 115(5.75,10.7) 116(5.25,10.7) 117(4.75,10.7) 118(4.25,10.7) 119(3.75,10.7) 120(3.25,10.7) 121(2.75,10.7) 122(2.25,10.7) 123(1.75,10.7) 124(1.25,10.7) 125(0.75,10.7) 126(0.25,10.7) 127(-0.25,10.7) 128(-0.75,10.7) 129(-1.25,10.7) 130(-1.75,10.7) 131(-2.25,10.7) 132(-2.75,10.7) 133(-3.25,10.7) 134(-3.75,10.7) 135(-4.25,10.7) 136(-4.75,10.7) 137(-5.25,10.7) 138(-5.75,10.7) 139(-6.25,10.7) 140(-6.75,10.7) 141(-7.25,10.7) 142(-7.75,10.7) 143(-8.25,10.7) 144(-8.75,10.7)
Top Overlay:
  circle w0.25: c-10.7,9.45 r0.125
  circle w0.6: c-8.6,8.6 r0.3
  lines w0.2: -9.6,-9.6 -9.6,9.6 9.6,9.6 9.6,-9.6 -9.6,-9.6
Mechanical 1:
  drawing of 441 lines, arcs and shapes, not listed
Mechanical 15:
  lines w0.05: -11.65,-11.65 -11.65,11.65 11.65,11.65 11.65,-11.65 -11.65,-11.65
  lines w0.1: -0.5,0 0.5,0 ; 0,-0.5 0,0.5
3D body "TQFP-144_20x20mm_P0.5mm.step": height 1.1, standoff 0, extent -11,-11 11,11

## VQFP-44_10.00x10.00mm [mm] "VQFP, 44-Leads, Body 10.00x10.00mm, Pitch 0.80mm, IPC Medium Density"
height 1.2
pads (44):
  rrect20% 1.4x0.55 smd: 1(-5.7,4) 2(-5.7,3.2) 3(-5.7,2.4) 4(-5.7,1.6) 5(-5.7,0.8) 6(-5.7,0) 7(-5.7,-0.8) 8(-5.7,-1.6) 9(-5.7,-2.4) 10(-5.7,-3.2) 11(-5.7,-4) 23(5.7,-4) 24(5.7,-3.2) 25(5.7,-2.4) 26(5.7,-1.6) 27(5.7,-0.8) 28(5.7,0) 29(5.7,0.8) 30(5.7,1.6) 31(5.7,2.4) 32(5.7,3.2) 33(5.7,4)
  rrect20% 0.55x1.4 smd: 12(-4,-5.7) 13(-3.2,-5.7) 14(-2.4,-5.7) 15(-1.6,-5.7) 16(-0.8,-5.7) 17(0,-5.7) 18(0.8,-5.7) 19(1.6,-5.7) 20(2.4,-5.7) 21(3.2,-5.7) 22(4,-5.7) 34(4,5.7) 35(3.2,5.7) 36(2.4,5.7) 37(1.6,5.7) 38(0.8,5.7) 39(0,5.7) 40(-0.8,5.7) 41(-1.6,5.7) 42(-2.4,5.7) 43(-3.2,5.7) 44(-4,5.7)
Top Overlay:
  circle w0.6: c-3.6,3.6 r0.3
  circle w0.25: c-5.7,4.825 r0.125
  lines w0.2: -4.6,-4.6 4.6,-4.6 4.6,4.6 -4.6,4.6 -4.6,-4.6
Mechanical 1:
  circle w0.05: c-4.129,4.129 r0.25
  lines w0.05: -4.925,-4.175 -6,-4.175 -6,-3.825 -4.925,-3.825 ; -4.925,-3.375 -6,-3.375 -6,-3.025 -4.925,-3.025 ; -4.925,-2.575 -6,-2.575 -6,-2.225 -4.925,-2.225 ; -4.925,-1.775 -6,-1.775 -6,-1.425 -4.925,-1.425 ; -4.925,-0.975 -6,-0.975 -6,-0.625 -4.925,-0.625 ; -4.925,-0.175 -6,-0.175 -6,0.175 -4.925,0.175 ; -4.925,0.625 -6,0.625 -6,0.975 -4.925,0.975 ; -4.925,1.425 -6,1.425 -6,1.775 -4.925,1.775 ; -4.925,2.225 -6,2.225 -6,2.575 -4.925,2.575 ; -4.925,3.025 -6,3.025 -6,3.375 -4.925,3.375 ; -4.925,3.825 -6,3.825 -6,4.175 -4.925,4.175 ; -4.175,-4.925 -4.175,-6 -3.825,-6 -3.825,-4.925 ; -4.175,4.925 -4.175,6 -3.825,6 -3.825,4.925 ; -3.375,-4.925 -3.375,-6 -3.025,-6 -3.025,-4.925 ; -3.375,4.925 -3.375,6 -3.025,6 -3.025,4.925 ; -2.575,-4.925 -2.575,-6 -2.225,-6 -2.225,-4.925 ; -2.575,4.925 -2.575,6 -2.225,6 -2.225,4.925 ; -1.775,-4.925 -1.775,-6 -1.425,-6 -1.425,-4.925 ; -1.775,4.925 -1.775,6 -1.425,6 -1.425,4.925 ; -0.975,-4.925 -0.975,-6 -0.625,-6 -0.625,-4.925 ; -0.975,4.925 -0.975,6 -0.625,6 -0.625,4.925 ; -0.175,-4.925 -0.175,-6 0.175,-6 0.175,-4.925 ; -0.175,4.925 -0.175,6 0.175,6 0.175,4.925 ; 0.625,-4.925 0.625,-6 0.975,-6 0.975,-4.925 ; 0.625,4.925 0.625,6 0.975,6 0.975,4.925 ; 1.425,-4.925 1.425,-6 1.775,-6 1.775,-4.925 ; 1.425,4.925 1.425,6 1.775,6 1.775,4.925 ; 2.225,-4.925 2.225,-6 2.575,-6 2.575,-4.925 ; 2.225,4.925 2.225,6 2.575,6 2.575,4.925 ; 3.025,-4.925 3.025,-6 3.375,-6 3.375,-4.925 ; 3.025,4.925 3.025,6 3.375,6 3.375,4.925 ; 3.825,-4.925 3.825,-6 4.175,-6 4.175,-4.925 ; 3.825,4.925 3.825,6 4.175,6 4.175,4.925 ; 4.925,-4.175 6,-4.175 6,-3.825 4.925,-3.825 ; 4.925,-3.375 6,-3.375 6,-3.025 4.925,-3.025 ; 4.925,-2.575 6,-2.575 6,-2.225 4.925,-2.225 ; 4.925,-1.775 6,-1.775 6,-1.425 4.925,-1.425 ; 4.925,-0.975 6,-0.975 6,-0.625 4.925,-0.625 ; 4.925,-0.175 6,-0.175 6,0.175 4.925,0.175 ; 4.925,0.625 6,0.625 6,0.975 4.925,0.975 ; 4.925,1.425 6,1.425 6,1.775 4.925,1.775 ; 4.925,2.225 6,2.225 6,2.575 4.925,2.575 ; 4.925,3.025 6,3.025 6,3.375 4.925,3.375 ; 4.925,3.825 6,3.825 6,4.175 4.925,4.175 ; -4.925,-4.788 -4.788,-4.925 4.788,-4.925 4.925,-4.788 4.925,4.788 4.788,4.925 -4.788,4.925 -4.925,4.788 -4.925,-4.788
Mechanical 15:
  lines w0.05: -6.65,-6.65 6.65,-6.65 6.65,6.65 -6.65,6.65 -6.65,-6.65
  lines w0.1: -0.5,0 0.5,0 ; 0,-0.5 0,0.5
3D body "TQFP-44_10x10mm_P0.8mm.step": height 1.1, standoff 0, extent -6,-6 6,6